# EAGLE library part SULLINS_RBB40DHHN (library AIC_Custom)
SULLINS RBB40DHHN .050" EDGE CARD CONNECTOR PTH solder pins, 0.050" [1.27mm] Contact centres, 0.610" Insulator Height Suitable for BBC micro:bit.
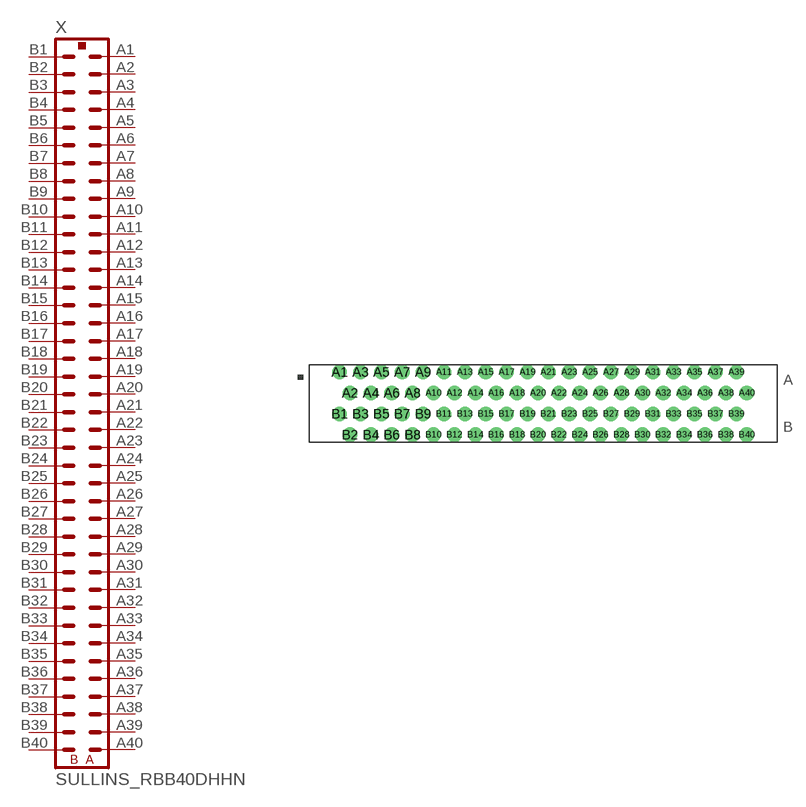
[diagram p2: symbol with the pads of RBB40DHHN; footprint RBB40DHHN]

Designator prefix X

## SULLINS_RBB40DHHNDEFAULT  [RBB40DHHN]
A1  A1  pas
A2  A2  pas
A3  A3  pas
A4  A4  pas
A5  A5  pas
A6  A6  pas
A7  A7  pas
A8  A8  pas
A9  A9  pas
A10  A10  pas
A11  A11  pas
A12  A12  pas
A13  A13  pas
A14  A14  pas
A15  A15  pas
A16  A16  pas
A17  A17  pas
A18  A18  pas
A19  A19  pas
A20  A20  pas
A21  A21  pas
A22  A22  pas
A23  A23  pas
A24  A24  pas
A25  A25  pas
A26  A26  pas
A27  A27  pas
A28  A28  pas
A29  A29  pas
A30  A30  pas
A31  A31  pas
A32  A32  pas
A33  A33  pas
A34  A34  pas
A35  A35  pas
A36  A36  pas
A37  A37  pas
A38  A38  pas
A39  A39  pas
A40  A40  pas
B1  B1  pas
B2  B2  pas
B3  B3  pas
B4  B4  pas
B5  B5  pas
B6  B6  pas
B7  B7  pas
B8  B8  pas
B9  B9  pas
B10  B10  pas
B11  B11  pas
B12  B12  pas
B13  B13  pas
B14  B14  pas
B15  B15  pas
B16  B16  pas
B17  B17  pas
B18  B18  pas
B19  B19  pas
B20  B20  pas
B21  B21  pas
B22  B22  pas
B23  B23  pas
B24  B24  pas
B25  B25  pas
B26  B26  pas
B27  B27  pas
B28  B28  pas
B29  B29  pas
B30  B30  pas
B31  B31  pas
B32  B32  pas
B33  B33  pas
B34  B34  pas
B35  B35  pas
B36  B36  pas
B37  B37  pas
B38  B38  pas
B39  B39  pas
B40  B40  pas

## Footprint RBB40DHHN (pad centres in mm)
SULLINS RBB40DHHN .050" EDGE CARD CONNECTOR PTH solder pins, 0.050" [1.27mm] Contact centres, 0.610" Insulator Height Suitable for BBC micro:bit.
drill 1.1 pad 1.778: A1 -25.4,3.81; A2 -24.13,1.27; A3 -22.86,3.81; A4 -21.59,1.27; A5 -20.32,3.81; A6 -19.05,1.27; A7 -17.78,3.81; A8 -16.51,1.27; A9 -15.24,3.81; A10 -13.97,1.27; A11 -12.7,3.81; A12 -11.43,1.27; A13 -10.16,3.81; A14 -8.89,1.27; A15 -7.62,3.81; A16 -6.35,1.27; A17 -5.08,3.81; A18 -3.81,1.27; A19 -2.54,3.81; A20 -1.27,1.27; A21 0,3.81; A22 1.27,1.27; A23 2.54,3.81; A24 3.81,1.27; A25 5.08,3.81; A26 6.35,1.27; A27 7.62,3.81; A28 8.89,1.27; A29 10.16,3.81; A30 11.43,1.27; A31 12.7,3.81; A32 13.97,1.27; A33 15.24,3.81; A34 16.51,1.27; A35 17.78,3.81; A36 19.05,1.27; A37 20.32,3.81; A38 21.59,1.27; A39 22.86,3.81; A40 24.13,1.27; B1 -25.4,-1.27; B2 -24.13,-3.81; B3 -22.86,-1.27; B4 -21.59,-3.81; B5 -20.32,-1.27; B6 -19.05,-3.81; B7 -17.78,-1.27; B8 -16.51,-3.81; B9 -15.24,-1.27; B10 -13.97,-3.81; B11 -12.7,-1.27; B12 -11.43,-3.81; B13 -10.16,-1.27; B14 -8.89,-3.81; B15 -7.62,-1.27; B16 -6.35,-3.81; B17 -5.08,-1.27; B18 -3.81,-3.81; B19 -2.54,-1.27; B20 -1.27,-3.81; B21 0,-1.27; B22 1.27,-3.81; B23 2.54,-1.27; B24 3.81,-3.81; B25 5.08,-1.27; B26 6.35,-3.81; B27 7.62,-1.27; B28 8.89,-3.81; B29 10.16,-1.27; B30 11.43,-3.81; B31 12.7,-1.27; B32 13.97,-3.81; B33 15.24,-1.27; B34 16.51,-3.81; B35 17.78,-1.27; B36 19.05,-3.81; B37 20.32,-1.27; B38 21.59,-3.81; B39 22.86,-1.27; B40 24.13,-3.81